# EAGLE library part 4495 (library 40xxDIN)
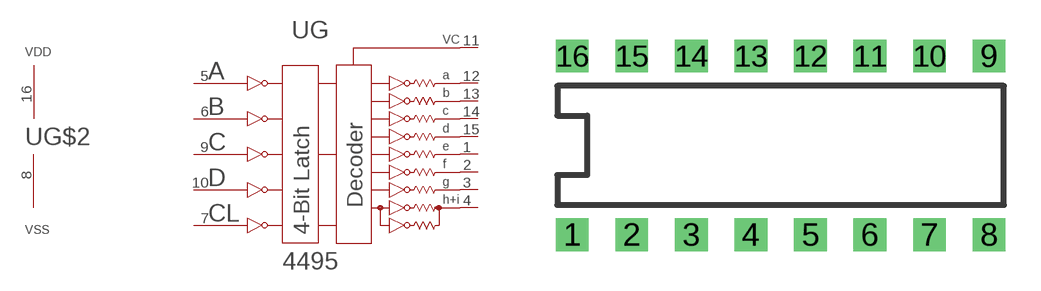
[diagram p72: symbol with the pads of DIL16; footprint DIL16]

Designator prefix -; gates G=4495 G$2=PWRN

## 4495  [DIL16]
1  G:1
2  G:2
3  G:3
4  G:4
5  G:5
6  G:6
7  G:7
8  G$2:VSS  pwr
9  G:9
10  G:10
11  G:11
12  G:12
13  G:13
14  G:14
15  G:15
16  G$2:VDD  pwr

## Footprint DIL16 (pad centres in mm)
drill 0.8 pad 1.397 square: 1 0,0; 2 2.54,0; 3 5.08,0; 4 7.62,0; 5 10.16,0; 6 12.7,0; 7 15.24,0; 8 17.78,0; 9 17.78,7.62; 10 15.24,7.62; 11 12.7,7.62; 12 10.16,7.62; 13 7.62,7.62; 14 5.08,7.62; 15 2.54,7.62; 16 0,7.62